# Altium footprint library Toggle_Swt.PcbLib: 1 footprints
Each footprint in its own frame and in the unit in brackets; x right, y up, seen from the top. Pads: shape width x height; smd on the part's side, far side on the other; paste and mask are expansions set on the pad; w line width, h text height; cw(c..) or ccw(c..) is an arc to the next point about the centre after c.
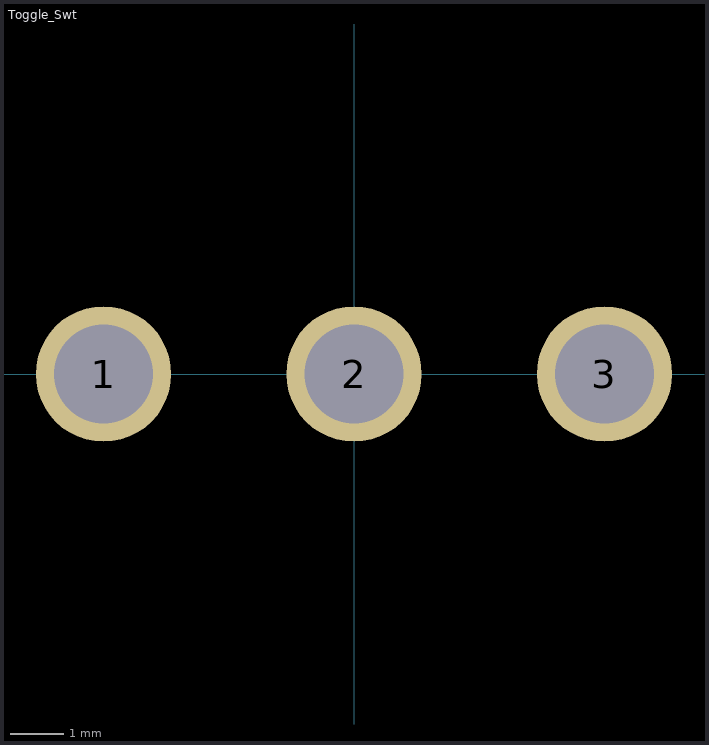
[diagram p0: the footprint, top view; thin cyan lines are the x and y axes]

## Toggle_Swt [mil]
pads (3):
  round 100 hole 73: 1(-185,0) 2(0,0) 3(185,0)
3D body "100SPxT1B1M2xE.stp": height 1157.13, standoff -202.06, extent -250,-135 250,135.08